# Altium schematic symbol library Schlib2.SchLib: 15 symbols
Pins are listed as number, name and electrical type; pins without a type are passive.

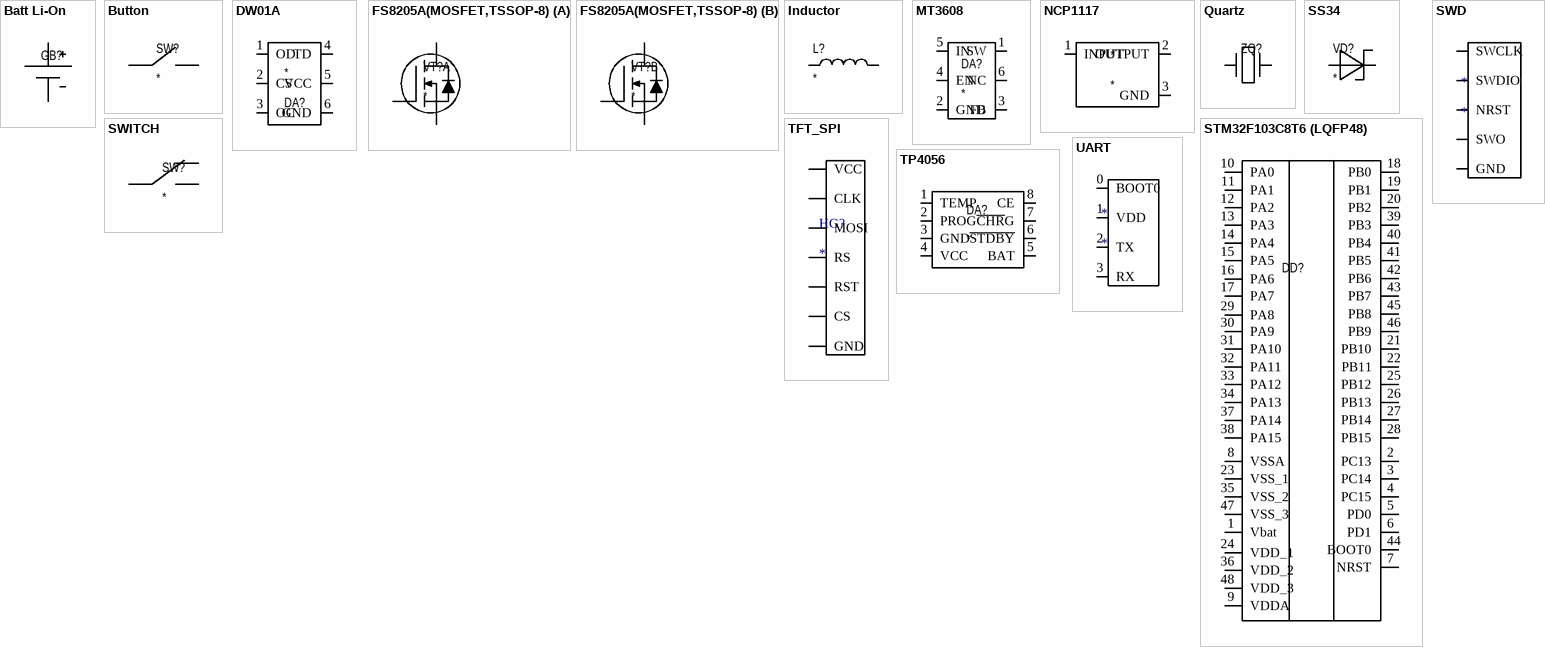
[diagram p0: symbols Batt Li-On to UART]

## Batt Li-On
designator GB?  (value not drawn)
footprint BATT
pins: 1, 2

## Button
designator SW?
footprint PCBComponent_1
pins: 1, 2

## DW01A
designator *, comment DA?
footprint SOT-23-6 (SOT23, 6-Leads, Body 2,85x2,80mm, Pitch 0,95mm, IPC Medium Density)
pins: 1 OD, 2 CS, 3 OC, 4 TD, 5 VCC, 6 GND

## FS8205A(MOSFET,TSSOP-8)
designator VT?
N-Channel MOSFET TSSOP-8
footprint TSOP65P600X120-8N (TSOP, 8-Leads, Body 2,93x4,40mm, Pitch 0,65mm, IPC Medium Density)
part A pins: 1 D12, 2 S1, 4 G1
part B pins: 5 G2, 6 S2, 8 D12

## Inductor
designator L?
footprint inductor SMD
pins: 1, 2

## MT3608
designator DA?
DC-DC Up converter (SOT23-6)
footprint SOT-23-6 (SOT23, 6-Leads, Body 2,85x2,80mm, Pitch 0,95mm, IPC Medium Density)
pins: 1 SW, 2 GND, 3 FB, 4 EN, 5 IN, 6 NC

## NCP1117
designator *
footprint SOT230P700X180-4N (SOT223, 4-Leads, Body 6,50x7,00mm (avg), Pitch 2,30mm, IPC Medium Density)
pins: 1 INPUT, 2 OUTPUT, 3 GND

## Quartz
designator ZQ?  (value not drawn)
footprint HC-49SM
pins: 1, 2

## SS34
designator VD?
Диод Шоттки 3A 40V
pins: 1, 2

## STM32F103C8T6 (LQFP48)
designator DD?  (value not drawn)
footprint TSQFP50P900X900X160-48N (TSQFP, 48-Leads, Body 7,00x7,00mm, Pitch 0,50mm, IPC Medium Density)
pins: 1 Vbat, 2 PC13, 3 PC14, 4 PC15, 5 PD0, 6 PD1, 7 NRST, 8 VSSA, 9 VDDA, 10 PA0, 11 PA1, 12 PA2, 13 PA3, 14 PA4, 15 PA5, 16 PA6, 17 PA7, 18 PB0, 19 PB1, 20 PB2, 21 PB10, 22 PB11, 23 VSS_1, 24 VDD_1, 25 PB12, 26 PB13, 27 PB14, 28 PB15, 29 PA8, 30 PA9, 31 PA10, 32 PA11, 33 PA12, 34 PA13, 35 VSS_2, 36 VDD_2, 37 PA14, 38 PA15, 39 PB3, 40 PB4, 41 PB5, 42 PB6, 43 PB7, 44 BOOT0, 45 PB8, 46 PB9, 47 VSS_3, 48 VDD_3

## SWD
designator *
footprint SWD
pins: 0 SWCLK, 1 GND, 2 SWDIO, 3 NRST, 4 SWO

## SWITCH
designator SW?
footprint Switch
pins: 1, 2, 3

## TFT_SPI
designator HG?
footprint LCD_TFT_SPI
pins: 1 VCC, 2 GND, 3 CLK, 4 MOSI, 5 RS, 6 RST, 7 CS

## TP4056
designator DA?
footprint SOP127P600X173-8N (SOP, 8-Leads, Body 4,90x3,91mm, Pitch 1,27mm, IPC Medium Density)
pins: 1 TEMP, 2 PROG, 3 GND, 4 VCC, 5 BAT, 6 ~{STDBY}, 7 ~{CHR}G, 8 CE

## UART
designator *
footprint UART
pins: 0 BOOT0, 1 VDD, 2 TX, 3 RX